# Altium schematic symbol library SCH - MCU - STM32 - ST MICROELECTRONICS STM32F318C8YX WLCSP49.SchLib: 1 symbol
Pins are listed as number, name and electrical type; pins without a type are passive.

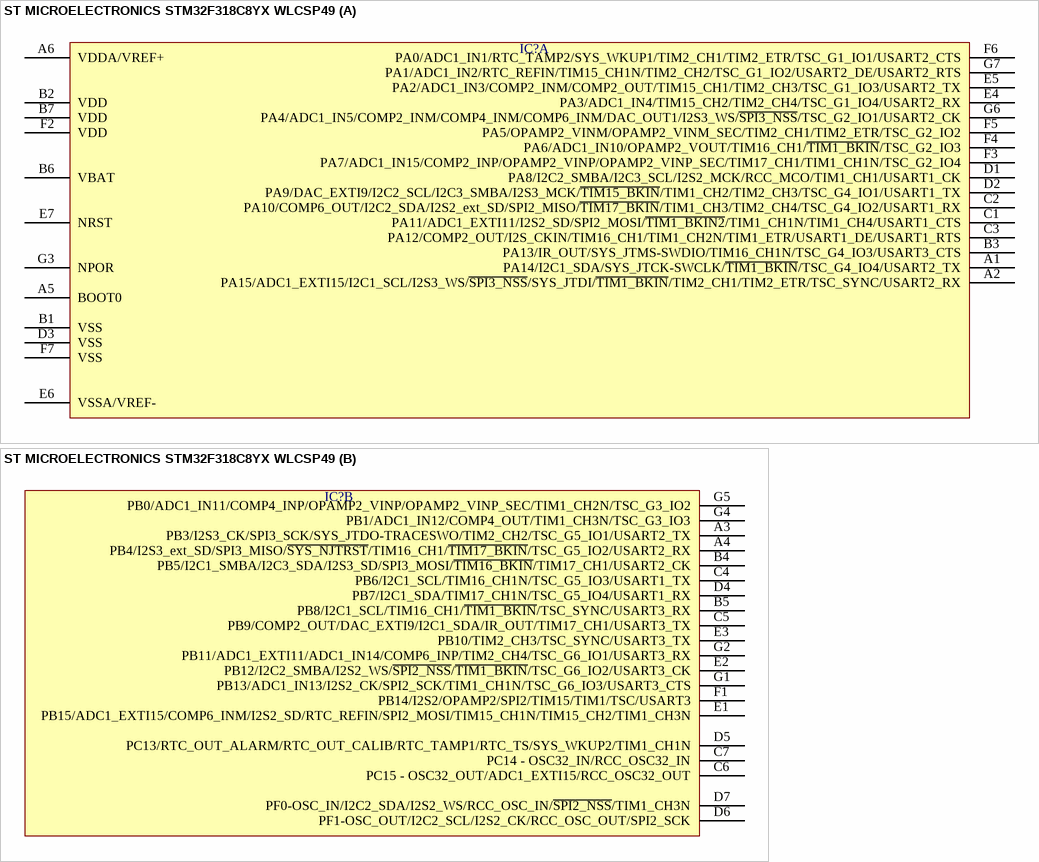
[diagram p0: symbol ST MICROELECTRONICS STM32F318C8YX WLCSP49]

## ST MICROELECTRONICS STM32F318C8YX WLCSP49
designator IC?  (value not drawn)
part A pins: A1 PA14/I2C1_SDA/SYS_JTCK-SWCLK/~{TIM1_BKIN}/TSC_G4_IO4/USART2_TX, A2 PA15/ADC1_EXTI15/I2C1_SCL/I2S3_WS/~{SPI3_NSS}/SYS_JTDI/~{TIM1_BKIN}/TIM2_CH1/TIM2_ETR/TSC_SYNC/USART2_RX, A5 BOOT0, A6 VDDA/VREF+, B1 VSS, B2 VDD, B3 PA13/IR_OUT/SYS_JTMS-SWDIO/TIM16_CH1N/TSC_G4_IO3/USART3_CTS, B6 VBAT, B7 VDD, C1 PA11/ADC1_EXTI11/I2S2_SD/SPI2_MOSI/~{TIM1_BKIN2}/TIM1_CH1N/TIM1_CH4/USART1_CTS, C2 PA10/COMP6_OUT/I2C2_SDA/I2S2_ext_SD/SPI2_MISO/~{TIM17_BKIN}/TIM1_CH3/TIM2_CH4/TSC_G4_IO2/USART1_RX, C3 PA12/COMP2_OUT/I2S_CKIN/TIM16_CH1/TIM1_CH2N/TIM1_ETR/USART1_DE/USART1_RTS, D1 PA8/I2C2_SMBA/I2C3_SCL/I2S2_MCK/RCC_MCO/TIM1_CH1/USART1_CK, D2 PA9/DAC_EXTI9/I2C2_SCL/I2C3_SMBA/I2S3_MCK/~{TIM15_BKIN}/TIM1_CH2/TIM2_CH3/TSC_G4_IO1/USART1_TX, D3 VSS, E4 PA3/ADC1_IN4/TIM15_CH2/TIM2_CH4/TSC_G1_IO4/USART2_RX, E5 PA2/ADC1_IN3/COMP2_INM/COMP2_OUT/TIM15_CH1/TIM2_CH3/TSC_G1_IO3/USART2_TX, E6 VSSA/VREF-, E7 NRST, F2 VDD, F3 PA7/ADC1_IN15/COMP2_INP/OPAMP2_VINP/OPAMP2_VINP_SEC/TIM17_CH1/TIM1_CH1N/TSC_G2_IO4, F4 PA6/ADC1_IN10/OPAMP2_VOUT/TIM16_CH1/~{TIM1_BKIN}/TSC_G2_IO3, F5 PA5/OPAMP2_VINM/OPAMP2_VINM_SEC/TIM2_CH1/TIM2_ETR/TSC_G2_IO2, F6 PA0/ADC1_IN1/RTC_TAMP2/SYS_WKUP1/TIM2_CH1/TIM2_ETR/TSC_G1_IO1/USART2_CTS, F7 VSS, G3 NPOR, G6 PA4/ADC1_IN5/COMP2_INM/COMP4_INM/COMP6_INM/DAC_OUT1/I2S3_WS/~{SPI3_NSS}/TSC_G2_IO1/USART2_CK, G7 PA1/ADC1_IN2/RTC_REFIN/TIM15_CH1N/TIM2_CH2/TSC_G1_IO2/USART2_DE/USART2_RTS
part B pins: A3 PB3/I2S3_CK/SPI3_SCK/SYS_JTDO-TRACESWO/TIM2_CH2/TSC_G5_IO1/USART2_TX, A4 PB4/I2S3_ext_SD/SPI3_MISO/~{SYS_NJTRST}/TIM16_CH1/~{TIM17_BKIN}/TSC_G5_IO2/USART2_RX, B4 PB5/I2C1_SMBA/I2C3_SDA/I2S3_SD/SPI3_MOSI/~{TIM16_BKIN}/TIM17_CH1/USART2_CK, B5 PB8/I2C1_SCL/TIM16_CH1/~{TIM1_BKIN}/TSC_SYNC/USART3_RX, C4 PB6/I2C1_SCL/TIM16_CH1N/TSC_G5_IO3/USART1_TX, C5 PB9/COMP2_OUT/DAC_EXTI9/I2C1_SDA/IR_OUT/TIM17_CH1/USART3_TX, C6 PC15 - OSC32_OUT/ADC1_EXTI15/RCC_OSC32_OUT, C7 PC14 - OSC32_IN/RCC_OSC32_IN, D4 PB7/I2C1_SDA/TIM17_CH1N/TSC_G5_IO4/USART1_RX, D5 PC13/RTC_OUT_ALARM/RTC_OUT_CALIB/RTC_TAMP1/RTC_TS/SYS_WKUP2/TIM1_CH1N, D6 PF1-OSC_OUT/I2C2_SCL/I2S2_CK/RCC_OSC_OUT/SPI2_SCK, D7 PF0-OSC_IN/I2C2_SDA/I2S2_WS/RCC_OSC_IN/~{SPI2_NSS}/TIM1_CH3N, E1 PB15/ADC1_EXTI15/COMP6_INM/I2S2_SD/RTC_REFIN/SPI2_MOSI/TIM15_CH1N/TIM15_CH2/TIM1_CH3N, E2 PB12/I2C2_SMBA/I2S2_WS/~{SPI2_NSS}/~{TIM1_BKIN}/TSC_G6_IO2/USART3_CK, E3 PB10/TIM2_CH3/TSC_SYNC/USART3_TX, F1 PB14/I2S2/OPAMP2/SPI2/TIM15/TIM1/TSC/USART3, G1 PB13/ADC1_IN13/I2S2_CK/SPI2_SCK/TIM1_CH1N/TSC_G6_IO3/USART3_CTS, G2 PB11/ADC1_EXTI11/ADC1_IN14/COMP6_INP/TIM2_CH4/TSC_G6_IO1/USART3_RX, G4 PB1/ADC1_IN12/COMP4_OUT/TIM1_CH3N/TSC_G3_IO3, G5 PB0/ADC1_IN11/COMP4_INP/OPAMP2_VINP/OPAMP2_VINP_SEC/TIM1_CH2N/TSC_G3_IO2